# Altium schematic symbol library LED.SchLib: 3 symbols
Pins are listed as number, name and electrical type; pins without a type are passive.

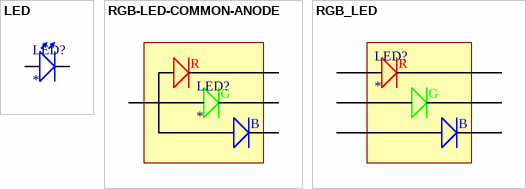
[diagram p0: symbols LED to RGB_LED]

## LED
designator LED?
Generic LED
footprint PLCC2_WITH_HEATSINK (PLCC, 2-Leads, Body 3x2.8mm, Lead Span 3.5mm, with heatsink pad extensions); pin to pad A>1 K>2
pins: A, K

## RGB-LED-COMMON-ANODE
designator LED?
Generic RGB LED with common anode
footprint PLCC4-REVERSE-MOUNT_N (PLCC reverse mount, 4-Leads, Body 3.2x2.8mm, 1.7mm pitch, Lead Span 5.4mm, IPC Medium Density); pin to pad A>1 BLUEK>2 GREENK>3 REDK>4
footprint PLCC4_N (PLCC, 4-Leads, Body 3.2x2.8x1.9mm, Pitch 1.7mm, Lead Span 3.4mm, IPC Medium Density); pin to pad A>1 BLUEK>2 GREENK>3 REDK>4
pins: A, BLUEK, GREENK, REDK
text: R; G; B

## RGB_LED
designator LED?
Generic RGB LED
footprint PLCC6_N_WITH_HEATSINK (PLCC, 6-Leads, Body 3x2.8x1.9mm, Pitch 0.9mm, Lead Span 3.4mm, IPC Medium Density, With Heatsink Pad Extensions)
pins: 1, 2, 3, 4, 5, 6
text: R; G; B